# Altium footprint library PCB - FUSE - BEL FUSE C1F.PcbLib: 1 footprints
Each footprint in its own frame and in the unit in brackets; x right, y up, seen from the top. Pads: shape width x height; smd on the part's side, far side on the other; paste and mask are expansions set on the pad; w line width, h text height; cw(c..) or ccw(c..) is an arc to the next point about the centre after c.
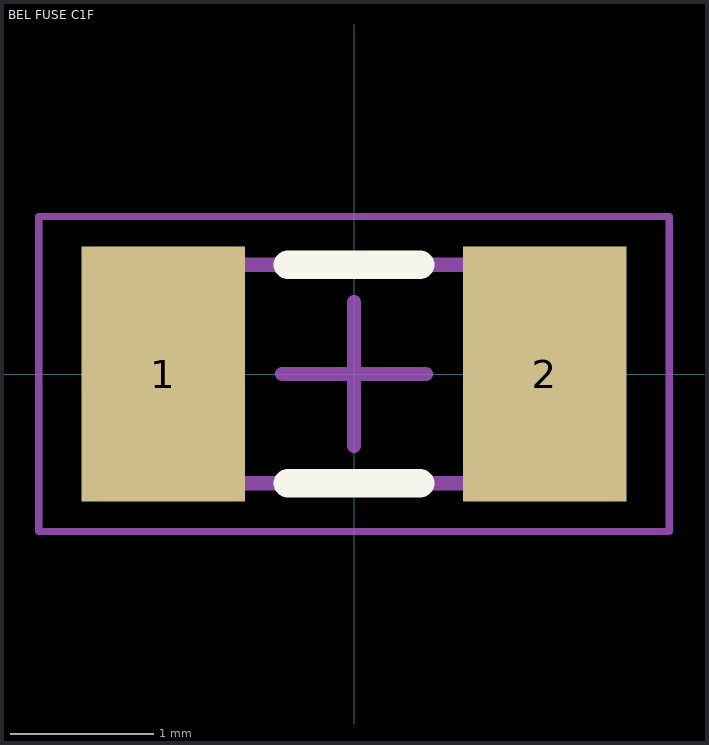
[diagram p0: the footprint, top view; thin cyan lines are the x and y axes]

## BEL FUSE C1F [mm] "Chip Fuse"
height 0.83
pads (2):
  rect 1.14x1.78 smd: 1(-1.33,0) 2(1.33,0)
Top Overlay:
  lines w0.2: -0.46,-0.762 0.46,-0.762 ; -0.46,0.762 0.46,0.762
Mechanical 13:
  lines w0.1: -1.587,-0.762 -1.587,0.762 1.587,0.762 1.587,-0.762 -1.587,-0.762
Mechanical 15:
  lines w0.05: -2.2,-1.1 -2.2,1.1 2.2,1.1 2.2,-1.1 -2.2,-1.1
  lines w0.1: -0.5,0 0.5,0 ; 0,-0.5 0,0.5
3D body "Bel Fuse C1F.step": height 0.83, standoff 0, extent -1.6,-0.79 1.6,0.79